# Altium footprint library DB9.PcbLib: 2 footprints
Each footprint in its own frame and in the unit in brackets; x right, y up, seen from the top. Pads: shape width x height; smd on the part's side, far side on the other; paste and mask are expansions set on the pad; w line width, h text height; cw(c..) or ccw(c..) is an arc to the next point about the centre after c.
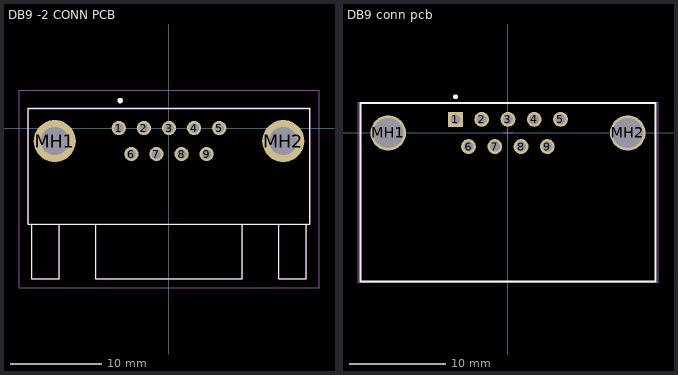
[diagram p0: the footprints below, top view; thin cyan lines are the x and y axes]

## DB9 -2 CONN PCB [mm] "DB9 -2 CONN PCB"
pads (11):
  round 1.56 hole 1.04: 1(-5.461,0) 2(-2.718,0) 3(0.025,0) 4(2.769,0) 5(5.512,0) 6(-4.089,-2.84) 7(-1.346,-2.84) 8(1.397,-2.84) 9(4.14,-2.84)
  round 4.605 hole 3.07: MH1(-12.47,-1.42) MH2(12.52,-1.42)
Top Overlay:
  lines w0.1: -14.975,-10.51 -14.975,-16.48 -11.975,-16.48 -11.975,-10.51 ; -7.975,-10.51 -7.975,-16.48 8.025,-16.48 8.025,-10.51 ; 12.025,-10.51 12.025,-16.48 15.025,-16.48 15.025,-10.51 ; -15.375,-10.51 -15.375,2.14 15.425,2.14 15.425,-10.51 -15.375,-10.51
  lines w0.3: -5.461,3 ccw(c-5.311,3) -5.161,3 ccw(c-5.311,3) -5.461,3
Mechanical 13:
  lines w0.2: -14.975,-10.51 -14.975,-16.48 -11.975,-16.48 -11.975,-10.51 ; -7.975,-10.51 -7.975,-16.48 8.025,-16.48 8.025,-10.51 ; 12.025,-10.51 12.025,-16.48 15.025,-16.48 15.025,-10.51 ; -15.375,-10.51 -15.375,2.14 15.425,2.14 15.425,-10.51 -15.375,-10.51
Mechanical 15:
  lines w0.1: -16.375,-17.48 -16.375,4.15 16.425,4.15 16.425,-17.48 -16.375,-17.48
3D body: height 2.54, standoff -2.54, extent -1272.54,-1272.54 -1267.46,-1267.46

## DB9 conn pcb [mm] "DB9 conn pcb"
pads (11):
  rect 1.55x1.55 hole 1.04: 1(-5.485,1.42)
  round 1.55 hole 1.04: 2(-2.745,1.42) 3(-0.005,1.42) 4(2.735,1.42) 5(5.475,1.42) 6(-4.115,-1.42) 7(-1.375,-1.42) 8(1.365,-1.42) 9(4.105,-1.42)
  round 3.7 hole 3.17: MH1(-12.495,0) MH2(12.495,0)
Top Overlay:
  circle w0.25: c-5.48,3.78 r0.125
  lines w0.2: -15.405,-15.49 -15.405,3.13 15.405,3.13 15.405,-15.49 -15.405,-15.49
Mechanical 13:
  lines w0.1: -15.405,-15.49 15.405,-15.49 15.405,3.13 -15.405,3.13 -15.405,-15.49
Mechanical 15:
  lines w0.1: -0.5,0 0.5,0 ; 0,-0.5 0,0.5 ; -15.644,-15.59 15.644,-15.59 15.644,3.23 -15.644,3.23 -15.644,-15.59
3D body "c-5747840-3-d-3d.stp": height 12.77, standoff -3.04, extent -15.519,-15.481 15.519,3.122